# Altium schematic symbol library Wireless.SchLib: 1 symbol
Pins are listed as number, name and electrical type; pins without a type are passive.

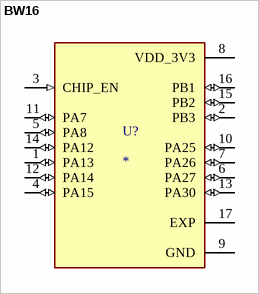
[diagram p0: symbol BW16]

## BW16
designator U?
dual-frequency Wi-Fi Bluetooth SoC module; MP: BW16; MF: AI-Thinker; Availability: Not in stock; Check_prices: https://www.snapeda.com/parts/BW16/AI-Thinker/view-part/?ref=eda; Value: *; Package: Package; Price: None; SnapEDA_Link: https://www.snapeda.com/parts/BW16/AI-Thinker/view-part/?ref=snap
footprint MODULE_BW16
pins: 1 PA13 (io), 2 PB3 (io), 3 CHIP_EN (in), 4 PA15 (io), 5 PA8 (io), 6 PA27 (io), 7 PA26 (io), 8 VDD_3V3 (power), 9 GND (power), 10 PA25 (io), 11 PA7 (io), 12 PA14 (io), 13 PA30 (io), 14 PA12 (io), 15 PB2 (io), 16 PB1 (io), 17 EXP